# EAGLE library part SN74CBT16390_DGG (library SensorCape)
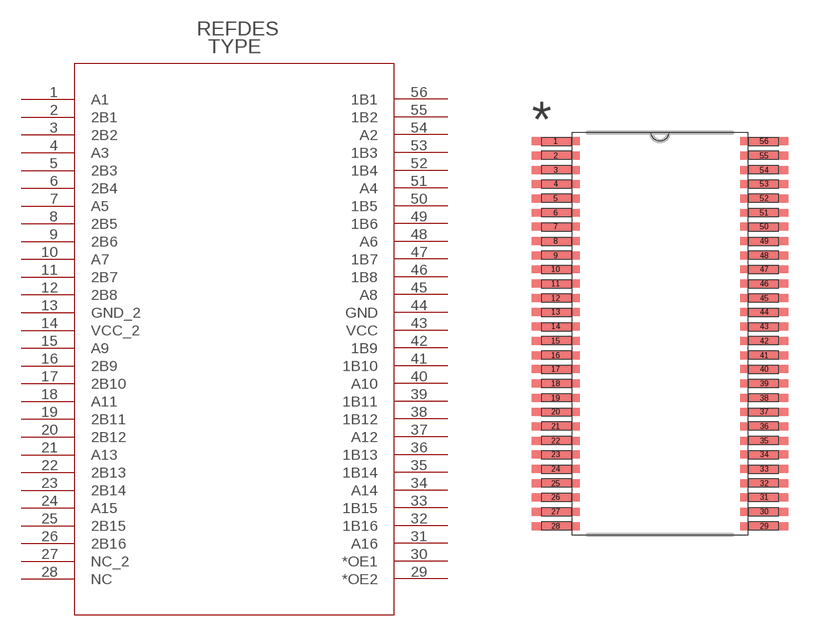
[diagram p15: symbol with the pads of DGG56; footprint DGG56]

Designator prefix U

## SN74CBT16390_DGG  [DGG56]
1  A1  pas
2  2B1  pas
3  2B2  pas
4  A3  pas
5  2B3  pas
6  2B4  pas
7  A5  pas
8  2B5  pas
9  2B6  pas
10  A7  pas
11  2B7  pas
12  2B8  pas
13  GND_2  pas
14  VCC_2  pas
15  A9  pas
16  2B9  pas
17  2B10  pas
18  A11  pas
19  2B11  pas
20  2B12  pas
21  A13  pas
22  2B13  pas
23  2B14  pas
24  A15  pas
25  2B15  pas
26  2B16  pas
27  NC_2  pas
28  NC  pas
29  *OE2  pas
30  *OE1  pas
31  A16  pas
32  1B16  pas
33  1B15  pas
34  A14  pas
35  1B14  pas
36  1B13  pas
37  A12  pas
38  1B12  pas
39  1B11  pas
40  A10  pas
41  1B10  pas
42  1B9  pas
43  VCC  pas
44  GND  pas
45  A8  pas
46  1B8  pas
47  1B7  pas
48  A6  pas
49  1B6  pas
50  1B5  pas
51  A4  pas
52  1B4  pas
53  1B3  pas
54  A2  pas
55  1B2  pas
56  1B1  pas

## Footprint DGG56 (pad centres in mm)
smd 1.676 x 0.279: 1 -3.658,6.756; 2 -3.658,6.248; 3 -3.658,5.74; 4 -3.658,5.258; 5 -3.658,4.75; 6 -3.658,4.242; 7 -3.658,3.759; 8 -3.658,3.251; 9 -3.658,2.743; 10 -3.658,2.261; 11 -3.658,1.753; 12 -3.658,1.245; 13 -3.658,0.762; 14 -3.658,0.254; 15 -3.658,-0.254; 16 -3.658,-0.762; 17 -3.658,-1.245; 18 -3.658,-1.753; 19 -3.658,-2.261; 20 -3.658,-2.743; 21 -3.658,-3.251; 22 -3.658,-3.759; 23 -3.658,-4.242; 24 -3.658,-4.75; 25 -3.658,-5.258; 26 -3.658,-5.74; 27 -3.658,-6.248; 28 -3.658,-6.756; 29 3.658,-6.756; 30 3.658,-6.248; 31 3.658,-5.74; 32 3.658,-5.258; 33 3.658,-4.75; 34 3.658,-4.242; 35 3.658,-3.759; 36 3.658,-3.251; 37 3.658,-2.743; 38 3.658,-2.261; 39 3.658,-1.753; 40 3.658,-1.245; 41 3.658,-0.762; 42 3.658,-0.254; 43 3.658,0.254; 44 3.658,0.762; 45 3.658,1.245; 46 3.658,1.753; 47 3.658,2.261; 48 3.658,2.743; 49 3.658,3.251; 50 3.658,3.759; 51 3.658,4.242; 52 3.658,4.75; 53 3.658,5.258; 54 3.658,5.74; 55 3.658,6.248; 56 3.658,6.756